# Altium footprint library TI_DGG-R-PDSO-G48N.PcbLib: 1 footprints
Each footprint in its own frame and in the unit in brackets; x right, y up, seen from the top. Pads: shape width x height; smd on the part's side, far side on the other; paste and mask are expansions set on the pad; w line width, h text height; cw(c..) or ccw(c..) is an arc to the next point about the centre after c.
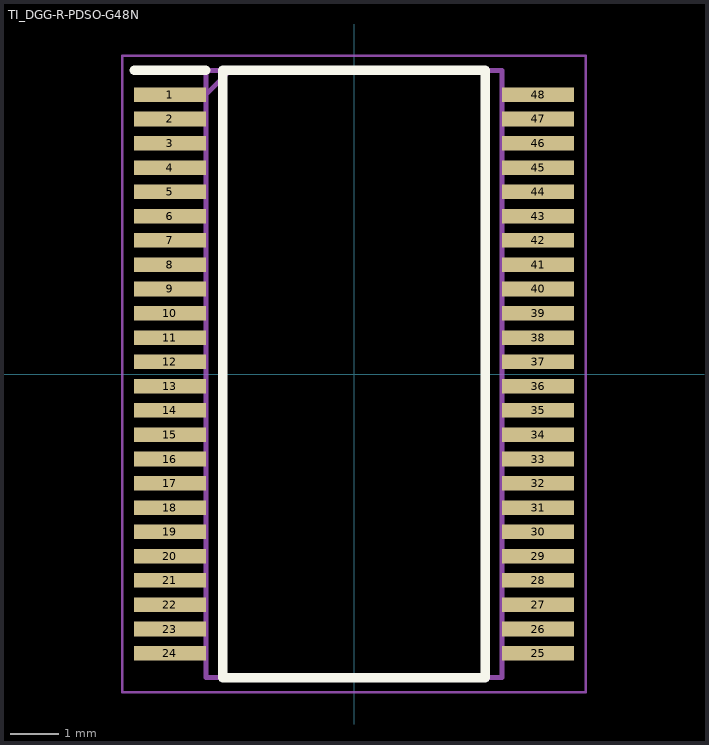
[diagram p0: the footprint, top view; thin cyan lines are the x and y axes]

## TI_DGG-R-PDSO-G48N [mm]
pads (48):
  rect 1.475x0.3 smd: 1(-3.788,5.75) 2(-3.788,5.25) 3(-3.788,4.75) 4(-3.788,4.25) 5(-3.788,3.75) 6(-3.788,3.25) 7(-3.788,2.75) 8(-3.788,2.25) 9(-3.788,1.75) 10(-3.788,1.25) 11(-3.788,0.75) 12(-3.788,0.25) 13(-3.788,-0.25) 14(-3.788,-0.75) 15(-3.788,-1.25) 16(-3.788,-1.75) 17(-3.788,-2.25) 18(-3.788,-2.75) 19(-3.788,-3.25) 20(-3.788,-3.75) 21(-3.788,-4.25) 22(-3.788,-4.75) 23(-3.788,-5.25) 24(-3.788,-5.75) 25(3.788,-5.75) 26(3.788,-5.25) 27(3.788,-4.75) 28(3.788,-4.25) 29(3.788,-3.75) 30(3.788,-3.25) 31(3.788,-2.75) 32(3.788,-2.25) 33(3.788,-1.75) 34(3.788,-1.25) 35(3.788,-0.75) 36(3.788,-0.25) 37(3.788,0.25) 38(3.788,0.75) 39(3.788,1.25) 40(3.788,1.75) 41(3.788,2.25) 42(3.788,2.75) 43(3.788,3.25) 44(3.788,3.75) 45(3.788,4.25) 46(3.788,4.75) 47(3.788,5.25) 48(3.788,5.75)
Top Overlay:
  lines w0.2: -4.525,6.25 -3.05,6.25 ; -2.7,-6.25 2.7,-6.25 2.7,6.25 -2.7,6.25 -2.7,-6.25
M5 Assembly Top:
  text ".Designator" at -0.762,6.35 h1.5
Mechanical 13:
  lines w0.1: -3.05,5.75 -2.55,6.25 ; -3.05,-6.25 3.05,-6.25 3.05,6.25 -3.05,6.25 -3.05,-6.25
Mechanical 15:
  lines w0.05: -4.775,-6.55 4.775,-6.55 4.775,6.55 -4.775,6.55 -4.775,-6.55
3D body "SN74LVCH16T245DGGR.stp": height 1.2, standoff 0, extent -4.05,-6.25 4.05,6.25